# EAGLE library part DRV8835 (library DRV8835 Dual Motor Driver Carrier)
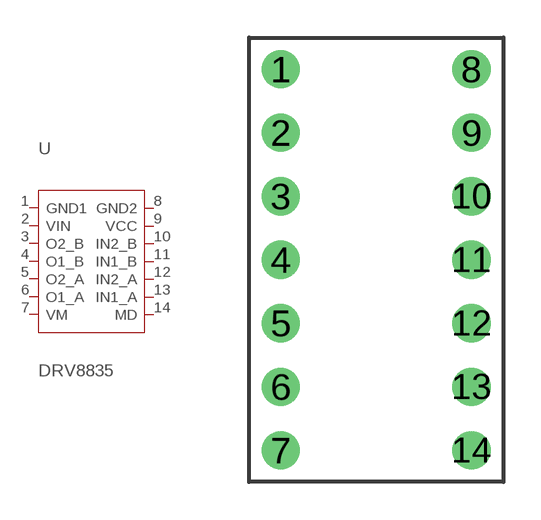
[diagram p0: symbol with the pads of DRV8835; footprint DRV8835]

Designator prefix -

## DRV8835  [DRV8835]
1  GND1
2  VIN
3  O2_B
4  O1_B
5  O2_A
6  O1_A
7  VM
8  GND2
9  VCC
10  IN2_B
11  IN1_B
12  IN2_A
13  IN1_A
14  MD

## Footprint DRV8835 (pad centres in mm)
drill 1.016: 1 0,0; 2 0,-2.54; 3 0,-5.08; 4 0,-7.62; 5 0,-10.16; 6 0,-12.7; 7 0,-15.24; 8 7.62,0; 9 7.62,-2.54; 10 7.62,-5.08; 11 7.62,-7.62; 12 7.62,-10.16; 13 7.62,-12.7; 14 7.62,-15.24